# EAGLE library part SKM53 (library Module)
SKM53 GPS Module
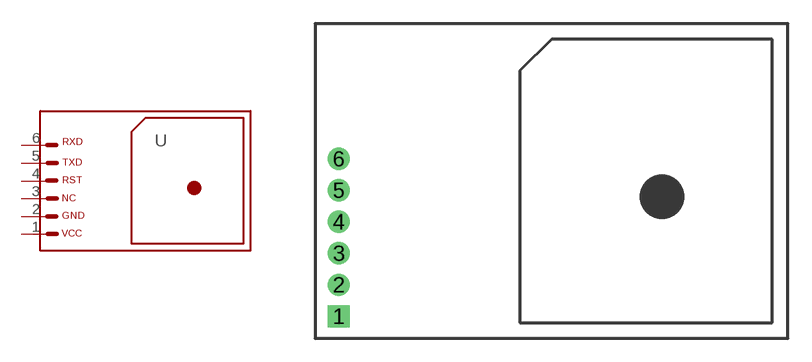
[diagram p4: symbol with the pads of SKM53; footprint SKM53]

Designator prefix -

## SKM53 (CYTRON-PC: GPS-SKM53; DESC: SKM53 GPS Module)  [SKM53]
1  VCC  pas
2  GND  pas
3  NC  pas
4  RST  pas
5  TXD  pas
6  RXD  pas

## Footprint SKM53 (pad centres in mm)
drill 0.7 pad 1.422 square: 1 -12.47,-7.49
drill 0.7 pad 1.422: 2 -12.47,-5.49; 3 -12.47,-3.49; 4 -12.47,-1.49; 5 -12.47,0.51; 6 -12.47,2.51